# Altium schematic symbol library 其他.SchLib: 19 symbols
Pins are listed as number, name and electrical type; pins without a type are passive.

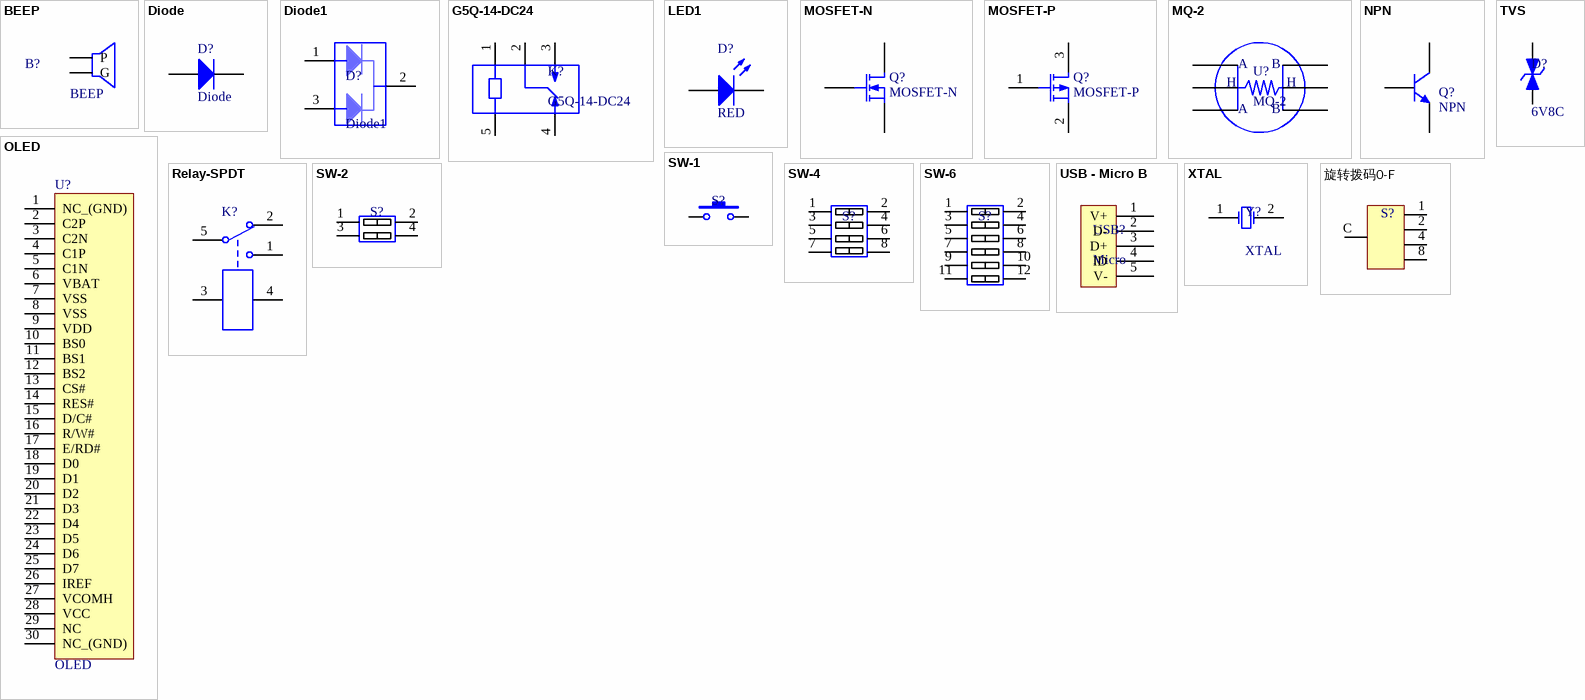
[diagram p0: symbols BEEP to 旋转拨码0-F]

## BEEP
designator B?
蜂鸣器; Value: 9*5.5mm; PackageReference: BEEP0905
footprint BEEP0905
pins: 1 P, 2 G

## Diode
designator D?
二极管; Value: 1N4148; PackageReference: SOD123
footprint SOD123
footprint SMA
pins: 1 A, 2 K

## Diode1
designator D?
双二极管; Value: 1N4148; PackageReference: SOD123
footprint SOD123
footprint SMA
pins: 1 A, 2 K, 3 A

## G5Q-14-DC24
designator K?
继电器
footprint RELAY-TH_5PIN_G5Q-14DC24
pins: 1, 2, 3, 4, 5

## LED1
designator D?, comment RED
发光二极管; Published: 8-Jun-2000; LatestRevisionDate: 17-Jul-2002; LatestRevisionNote: Re-released for DXP Platform.; PackageDocument: Feb-2002; PackageReference: 3.2X1.6X1.1; Publisher: Altium Limited
footprint SMDLED
pins: 1 A, 2 K

## MOSFET-N
designator Q?
N-MOS; PackageDocument: 1995/1996; Published: 8-Jun-2000; LatestRevisionDate: 17-Jul-2002; LatestRevisionNote: Re-released for DXP Platform.; PackageReference: E3; Publisher: Altium Limited
footprint E3 (TO, Flat Index; 3 In-Line, Axial Leads; Body Dia. 4.6mm; Lead Dia. 0.5 mm (max))
simulation model NMOS (MOSFET-N)
pins: 1 D, 2 G, 3 S

## MOSFET-P
designator Q?
P-MOS; PackageDocument: 1995/1996; Published: 8-Jun-2000; LatestRevisionDate: 17-Jul-2002; LatestRevisionNote: Re-released for DXP Platform.; PackageReference: E3; Publisher: Altium Limited
footprint SOT-23
simulation model PMOS (MOSFET-P)
pins: 1 G, 2 S, 3 D

## MQ-2
designator U?
气体传感器
pins: 1, 2, 3, 4, 5, 6
text: A; B; H

## NPN
designator Q?
三极管; Value: S8050; PackageReference: TO-23
footprint SOT-23 (SOT-23; 3 Leads; Body 3.0 x 2.6 mm, inc. leads (LxW max))
pins: 1 B, 2 E, 3 C

## OLED
designator U?
OLED屏; LatestRevisionDate: 17-Jul-2002; LatestRevisionNote: Re-released for DXP Platform.; Publisher: Altium Limited
footprint OLED_0.96
pins: 1 NC_(GND), 2 C2P, 3 C2N, 4 C1P, 5 C1N, 6 VBAT, 7 VSS, 8 VSS, 9 VDD, 10 BS0, 11 BS1, 12 BS2, 13 CS#, 14 RES#, 15 D/C#, 16 R/W#, 17 E/RD#, 18 D0, 19 D1, 20 D2, 21 D3, 22 D4, 23 D5, 24 D6, 25 D7, 26 IREF, 27 VCOMH, 28 VCC, 29 NC, 30 NC_(GND)

## Relay-SPDT
designator K?  (value not drawn)
继电器; Published: 24-Mar-1999; LatestRevisionDate: 17-Jul-2002; LatestRevisionNote: Re-released for DXP Platform.; PackageReference: MODULE5B; Publisher: Altium Limited
footprint Relay_5Pin
simulation model SPDTRELAY (Spice Subcircuit)
pins: 1, 2, 3, 4, 5

## SW-1
designator S?  (value not drawn)
轻触按键; Value: 3*6*2.5MM; PackageReference: TD-19XA; ComponentLink1URL: https://item.szlcsc.com/300030.html
footprint TD-19XA (轻触开关3*6*2.5MM)
footprint SW1
pins: 1, 2

## SW-2
designator S?  (value not drawn)
拨码开关2
footprint BSW2
pins: 1, 2, 3, 4

## SW-4
designator S?  (value not drawn)
拨码开关4
footprint BSW4
pins: 1, 2, 3, 4, 5, 6, 7, 8

## SW-6
designator S?  (value not drawn)
拨码开关6
footprint BSW4
pins: 1, 2, 3, 4, 5, 6, 7, 8, 9, 10, 11, 12

## TVS
designator D?, comment 6V8C
瞬态抑制二极管; Published: 8-Jun-2000; LatestRevisionDate: 17-Jul-2002; LatestRevisionNote: Re-released for DXP Platform.; PackageReference: DIODE-0.7; Publisher: Altium Limited
footprint DIODE-0.7 (Zener Diode; 2 Leads)
simulation model ZENER (Diode)
signal-integrity model D Zener
pins: 1 A, 2 K

## USB - Micro B
designator USB?, comment Micro
Micro USB; ComponentLink1URL: https://item.szlcsc.com/10961.html
footprint MICRO-USB-1
pins: 0 hidden to 0, 1 V+, 2 D-, 3 D+, 4 ID, 5 V-

## XTAL
designator Y?
晶振; Published: 8-Jun-2000; LatestRevisionDate: 17-Jul-2002; LatestRevisionNote: Re-released for DXP Platform.; PackageReference: HC-49S; Publisher: Altium Limited
footprint 3215 (贴片 2Pin 3.2*1.5mm)
footprint HC-49S
footprint 5032 (贴片 4Pin 5.0*3.2mm)
pins: 1 OSC1, 2 OSC2

## 旋转拨码0-F
designator S?, comment 拨码开关  (value not drawn)
footprint 旋转拨码0-F
pins: 1, 2, 4, 8, C